# EAGLE library part V__VFD_20-LT-02GK (library ++Bedrahtet)
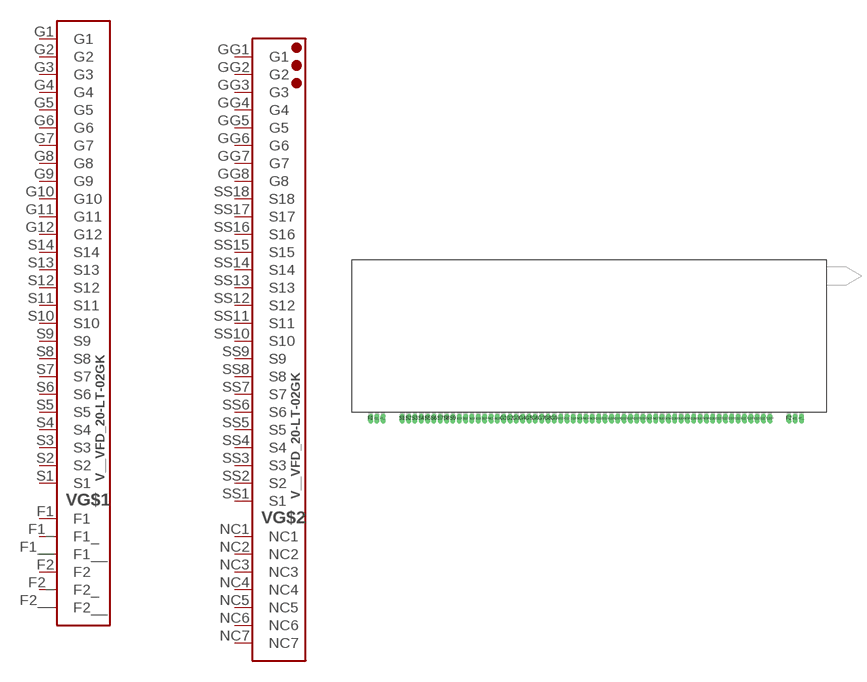
[diagram p34: symbol with the pads of VFD_20-LT-02GK; footprint VFD_20-LT-02GK]

Designator prefix V; gates G$1=VFD_20-LT-02GK G$2=VFD_20-LT-02GK_

## V__VFD_20-LT-02GK  [VFD_20-LT-02GK]
F1  G$1:F1
F1_  G$1:F1_
F1__  G$1:F1__
F2  G$1:F2
F2_  G$1:F2_
F2__  G$1:F2__
G1  G$1:G1
G2  G$1:G2
G3  G$1:G3
G4  G$1:G4
G5  G$1:G5
G6  G$1:G6
G7  G$1:G7
G8  G$1:G8
G9  G$1:G9
G10  G$1:G10
G11  G$1:G11
G12  G$1:G12
GG1  G$2:G1
GG2  G$2:G2
GG3  G$2:G3
GG4  G$2:G4
GG5  G$2:G5
GG6  G$2:G6
GG7  G$2:G7
GG8  G$2:G8
NC1  G$2:NC1
NC2  G$2:NC2
NC3  G$2:NC3
NC4  G$2:NC4
NC5  G$2:NC5
NC6  G$2:NC6
NC7  G$2:NC7
S1  G$1:S1
S2  G$1:S2
S3  G$1:S3
S4  G$1:S4
S5  G$1:S5
S6  G$1:S6
S7  G$1:S7
S8  G$1:S8
S9  G$1:S9
S10  G$1:S10
S11  G$1:S11
S12  G$1:S12
S13  G$1:S13
S14  G$1:S14
SS1  G$2:S1
SS2  G$2:S2
SS3  G$2:S3
SS4  G$2:S4
SS5  G$2:S5
SS6  G$2:S6
SS7  G$2:S7
SS8  G$2:S8
SS9  G$2:S9
SS10  G$2:S10
SS11  G$2:S11
SS12  G$2:S12
SS13  G$2:S13
SS14  G$2:S14
SS15  G$2:S15
SS16  G$2:S16
SS17  G$2:S17
SS18  G$2:S18

## Footprint VFD_20-LT-02GK (pad centres in mm)
drill 1 pad 1.6 long: F1 0,0; F1_ 2,0; F1__ 4,0; F2 132,0; F2_ 134,0; F2__ 136,0; G1 42,0; G2 44,0; G3 46,0; G4 48,0; G5 50,0; G6 52,0; G7 54,0; G8 56,0; G9 58,0; G10 60,0; G11 62,0; G12 64,0; GG1 72,0; GG2 74,0; GG3 76,0; GG4 78,0; GG5 80,0; GG6 82,0; GG7 84,0; GG8 86,0; NC1 38,0; NC2 40,0; NC3 66,0; NC4 68,0; NC5 70,0; NC6 88,0; NC7 90,0; S1 10,0; S2 12,0; S3 14,0; S4 16,0; S5 18,0; S6 20,0; S7 22,0; S8 24,0; S9 26,0; S10 28,0; S11 30,0; S12 32,0; S13 34,0; S14 36,0; SS1 92,0; SS2 94,0; SS3 96,0; SS4 98,0; SS5 100,0; SS6 102,0; SS7 104,0; SS8 106,0; SS9 108,0; SS10 110,0; SS11 112,0; SS12 114,0; SS13 116,0; SS14 118,0; SS15 120,0; SS16 122,0; SS17 124,0; SS18 126,0